# EAGLE library part TAS5713 (library mouser)
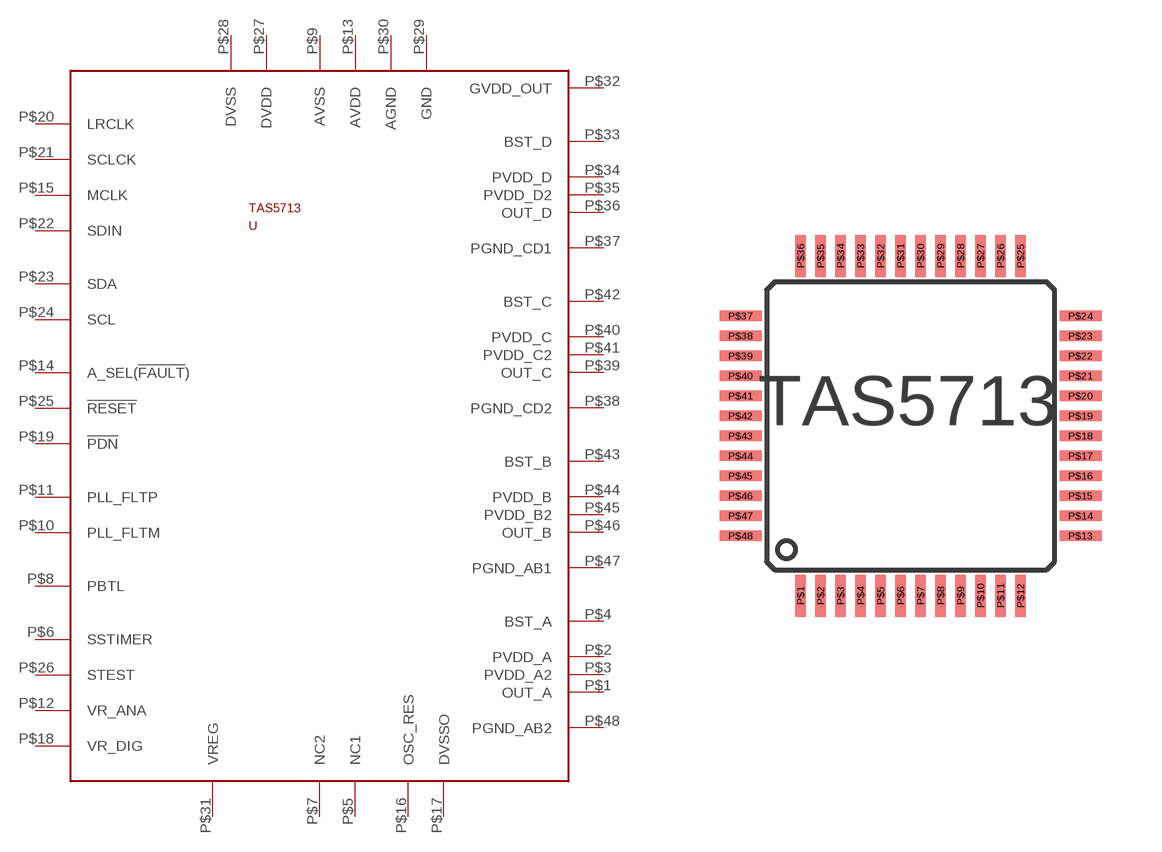
[diagram p2: symbol with the pads of TAS5713_DIM; footprint TAS5713_DIM]

Designator prefix -

## TAS5713  [TAS5713_DIM]
P$1  OUT_A
P$2  PVDD_A
P$3  PVDD_A2
P$4  BST_A
P$5  NC1
P$6  SSTIMER
P$7  NC2
P$8  PBTL
P$9  AVSS
P$10  PLL_FLTM
P$11  PLL_FLTP
P$12  VR_ANA
P$13  AVDD
P$14  A_SEL(!FAULT!)
P$15  MCLK
P$16  OSC_RES
P$17  DVSSO
P$18  VR_DIG
P$19  !PDN!
P$20  LRCLK
P$21  SCLCK
P$22  SDIN
P$23  SDA
P$24  SCL
P$25  !RESET!
P$26  STEST
P$27  DVDD
P$28  DVSS
P$29  GND
P$30  AGND
P$31  VREG
P$32  GVDD_OUT
P$33  BST_D
P$34  PVDD_D
P$35  PVDD_D2
P$36  OUT_D
P$37  PGND_CD1
P$38  PGND_CD2
P$39  OUT_C
P$40  PVDD_C
P$41  PVDD_C2
P$42  BST_C
P$43  BST_B
P$44  PVDD_B
P$45  PVDD_B2
P$46  OUT_B
P$47  PGND_AB1
P$48  PGND_AB2

## Footprint TAS5713_DIM (pad centres in mm)
smd 0.27 x 1.05: P$1 -2.75,-4.25; P$2 -2.25,-4.25; P$3 -1.75,-4.25; P$4 -1.25,-4.25; P$5 -0.75,-4.25; P$6 -0.25,-4.25; P$7 0.25,-4.25; P$8 0.75,-4.25; P$9 1.25,-4.25; P$10 1.75,-4.25; P$11 2.25,-4.25; P$12 2.75,-4.25; P$25 2.75,4.25; P$26 2.25,4.25; P$27 1.75,4.25; P$28 1.25,4.25; P$29 0.75,4.25; P$30 0.25,4.25; P$31 -0.25,4.25; P$32 -0.75,4.25; P$33 -1.25,4.25; P$34 -1.75,4.25; P$35 -2.25,4.25; P$36 -2.75,4.25
smd 1.05 x 0.27: P$13 4.25,-2.75; P$14 4.25,-2.25; P$15 4.25,-1.75; P$16 4.25,-1.25; P$17 4.25,-0.75; P$18 4.25,-0.25; P$19 4.25,0.25; P$20 4.25,0.75; P$21 4.25,1.25; P$22 4.25,1.75; P$23 4.25,2.25; P$24 4.25,2.75; P$37 -4.25,2.75; P$38 -4.25,2.25; P$39 -4.25,1.75; P$40 -4.25,1.25; P$41 -4.25,0.75; P$42 -4.25,0.25; P$43 -4.25,-0.25; P$44 -4.25,-0.75; P$45 -4.25,-1.25; P$46 -4.25,-1.75; P$47 -4.25,-2.25; P$48 -4.25,-2.75